# Altium footprint library TEP_243-Altium_Library.PcbLib: 103 footprints (part 2 of 7)
Each footprint in its own frame and in the unit in brackets; x right, y up, seen from the top. Pads: shape width x height; smd on the part's side, far side on the other; paste and mask are expansions set on the pad; w line width, h text height; cw(c..) or ccw(c..) is an arc to the next point about the centre after c.
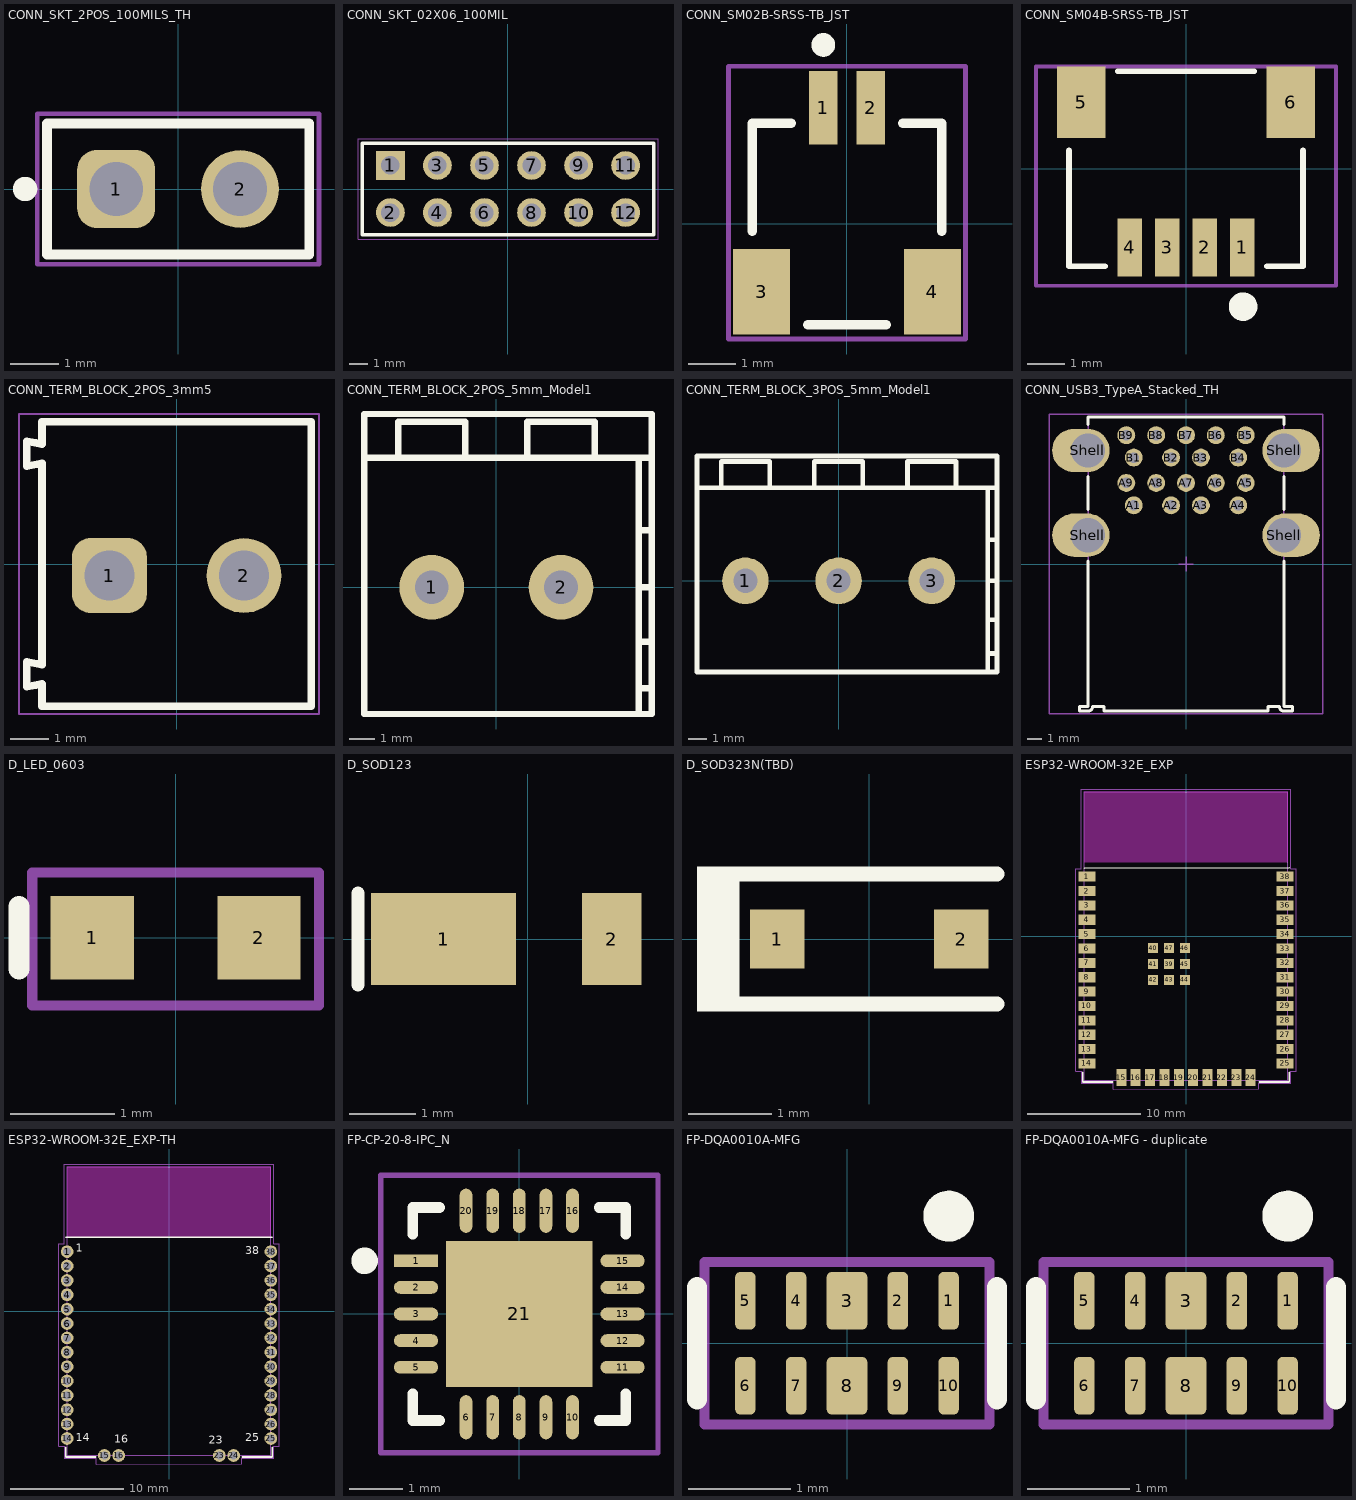
[diagram p1: the footprints below, top view; thin cyan lines are the x and y axes]

## CONN_SKT_2POS_100MILS_TH [mm] "Receptacle, pitch 2.54 mm, THT, Vertical, single row, 2p"
height 8.54
pads (2):
  rrect50% 1.6x1.6 hole 1.1: 1(-1.27,0)
  round 1.6 hole 1.1: 2(1.27,0)
Top Overlay:
  circle w0.25: c-3.14,0 r0.125
  lines w0.2: -2.69,-1.345 -2.69,1.345 2.69,1.345 2.69,-1.345 -2.69,-1.345
Top Courtyard:
  lines w0.1: -2.89,-1.545 2.89,-1.545 2.89,1.545 -2.89,1.545 -2.89,-1.545
Top Designator:
  text ".Designator" at -2.272,-0.229 h1
3D body "PPTC021LFBN-RC.STEP": height 8.51, standoff -3.2, extent -2.794,-1.27 2.794,1.27

## CONN_SKT_02X06_100MIL [mm] "SQ Post Socket, 2x6 Pins, Vertical, 2.54mm Pitch, Female"
height 8.51
pads (12):
  rect 1.55x1.55 hole 1: 1(-6.35,1.27)
  round 1.55 hole 1: 2(-6.35,-1.27) 3(-3.81,1.27) 4(-3.81,-1.27) 5(-1.27,1.27) 6(-1.27,-1.27) 7(1.27,1.27) 8(1.27,-1.27) 9(3.81,1.27) 10(3.81,-1.27) 11(6.35,1.27) 12(6.35,-1.27)
Top Overlay:
  lines w0.2: -7.875,-2.475 7.875,-2.475 7.875,2.475 -7.875,2.475 -7.875,-2.475
Top Courtyard:
  lines w0.05: -8.1,-2.7 8.1,-2.7 8.1,2.7 -8.1,2.7 -8.1,-2.7
Top 3D Body:
  lines w0.1: -7.875,-2.475 7.875,-2.475 7.875,2.475 -7.875,2.475 -7.875,-2.475
3D body "SSW-106-01-X-D.step": height 8.51, standoff -2.64, extent -7.874,-2.477 7.874,2.477

## CONN_SM02B-SRSS-TB_JST [mm]
pads (4):
  rect 0.6x1.55 smd paste+0 mask+0: 1(-0.5,2.45) 2(0.5,2.45)
  rect 1.2x1.8 smd paste+0 mask+0: 3(-1.8,-1.425) 4(1.8,-1.425)
Top Overlay:
  circle w0.25: c-0.5,3.775 r0.125
  lines w0.2: -2,-0.15 -2,2.125 -1.175,2.125 ; -0.825,-2.125 0.825,-2.125 ; 1.175,2.125 2,2.125 2,-0.15
Top Courtyard:
  lines w0.1: -2.5,-2.425 2.5,-2.425 2.5,3.325 -2.5,3.325 -2.5,-2.425
Top Designator:
  text ".Designator" at -1.981,-0.212 h1.5
3D body "Conn_JST_SM02B-SRSS-TB_LF_SN_eec.STEP": height 0.25, standoff 0, extent -2.5,-2.425 2.5,3.325

## CONN_SM04B-SRSS-TB_JST [mil]
height 104.33
pads (6):
  rect 26x61 smd paste+0 mask+0: 1(59.06,-82.62) 2(19.68,-82.62) 3(-19.68,-82.62) 4(-59.06,-82.62)
  rect 51x75 smd paste-37.5 mask-37.5: 5(-110.24,69.94) 6(110.24,69.94)
Top Overlay:
  circle w20: c60,-145 r5
  lines w6: -123,19.34 -123,-102.5 -85.16,-102.5 ; -71.64,102.5 71.64,102.5 ; 85.16,-102.5 123,-102.5 123,19.34
Top Courtyard:
  lines w3.94: -157.74,-123.12 -157.74,107.5 157.74,107.5 157.74,-123.12 -157.74,-123.12
Top Designator:
  text ".Designator" at -88.01,-13.35 h59.06
3D body "SM04B-SRSS-TB.STEP": height 128.15, standoff 11.61, extent -118.11,-96.51 118.11,98.35

## CONN_TERM_BLOCK_2POS_3mm5 [mm] "3.50 mm Horizontal Entry Modular, 2p"
height 8.5
pads (2):
  rrect50% 1.95x1.95 hole 1.3: 1(-1.75,-0.3)
  round 1.95 hole 1.3: 2(1.75,-0.3)
Top Overlay:
  lines w0.2: -3.9,-3.195 -3.9,-2.545 -3.5,-2.62 -3.5,2.62 -3.9,2.545 -3.9,3.195 -3.5,3.12 -3.5,3.7 3.5,3.7 3.5,-3.7 -3.5,-3.7 -3.5,-3.12 -3.9,-3.195
Top Courtyard:
  lines w0.05: -4.1,-3.9 -4.1,3.9 3.7,3.9 3.7,-3.9 -4.1,-3.9
Top Assembly:
  lines w0.1: -3.9,-3.195 -3.5,-3.12 -3.5,-3.7 3.5,-3.7 3.5,3.7 -3.5,3.7 -3.5,3.12 -3.9,3.195 -3.9,2.545 -3.5,2.62 -3.5,-2.62 -3.9,-2.545 -3.9,-3.195
Top Designator:
  text ".Designator" at -3.647,-0.357 h1
Top 3D Body:
  lines w0.1: -3.9,-3.195 -3.9,-2.545 -3.5,-2.62 -3.5,2.62 -3.9,2.545 -3.9,3.195 -3.5,3.12 -3.5,3.7 3.5,3.7 3.5,-3.7 -3.5,-3.7 -3.5,-3.12 -3.9,-3.195
3D body "691214110002.stp": height 8.55, standoff -3.65, extent -3.95,-3.7 3.5,3.7

## CONN_TERM_BLOCK_2POS_5mm_Model1 [mm] "Terminal Block 2 positions Throught hole"
height 15
pads (2):
  round 2.5 hole 1.3: 1(-2.5,0) 2(2.5,0)
Top Overlay:
  lines w0.25: -5.1,5 5.9,5 ; -3.8,5.1 -3.8,6.4 -1.2,6.4 -1.2,5.1 ; 1.2,5.1 1.2,6.4 3.8,6.4 3.8,5.1 ; 5.5,-4.9 5.5,5 ; 5.5,-3.9 6,-3.9 ; 5.5,-2.1 6,-2.1 ; 5.5,0 6,0 ; 5.5,2.2 6,2.2 ; -5.1,-4.9 6,-4.9 6,6.7 -5.1,6.7 -5.1,-4.9
Top Designator:
  text ".Designator" at -2.032,1.523 h1
3D body "pxc_1890963_02_MKDSN-2-5-2_3D.stp": height 15.1, standoff -3.4, extent -4.985,-4.7 5.585,4.8

## CONN_TERM_BLOCK_3POS_5mm_Model1 [mm] "Terminal Block 3 positions Throught hole"
height 15
pads (3):
  round 2.5 hole 1.3: 1(-5,0) 2(0,0) 3(5,0)
Top Overlay:
  lines w0.25: -7.6,5 8.5,5 ; -6.3,5.1 -6.3,6.4 -3.7,6.4 -3.7,5.1 ; -1.3,5.1 -1.3,6.4 1.3,6.4 1.3,5.1 ; 3.7,5.1 3.7,6.4 6.3,6.4 6.3,5.1 ; 8,-4.9 8,5 ; 8,-3.9 8.5,-3.9 ; 8,-2.1 8.5,-2.1 ; 8,0 8.5,0 ; 8,2.2 8.5,2.2 ; -7.6,-4.9 -7.6,6.7 8.5,6.7 8.5,-4.9 -7.6,-4.9
Top Designator:
  text ".Designator" at -1.905,1.523 h1
3D body "pxc_1890976_02_MKDSN-2-5-3_3D.stp": height 15.1, standoff -3.4, extent -7.485,-4.8 8.085,4.7

## CONN_USB3_TypeA_Stacked_TH [mm] "USB 3.0 Type A Stacked 692141030100"
height 15.42
pads (22):
  round 1.2 hole 0.7: A1(-3.5,3.93) A2(-1,3.93) A3(1,3.93) A4(3.5,3.93) A5(4,5.43) A6(2,5.43) A7(0,5.43) A8(-2,5.43) A9(-4,5.43) B1(-3.5,7.13) B2(-1,7.13) B3(1,7.13) B4(3.5,7.13) B5(4,8.63) B6(2,8.63) B7(0,8.63) B8(-2,8.63) B9(-4,8.63)
  oval 3.85x2.9 hole 2.3 copper offset -0.475,0: Shell(-6.57,1.93) Shell(-6.57,7.61)
  oval 3.85x2.9 hole 2.3 copper offset 0.475,0: Shell(6.57,1.93) Shell(6.57,7.61)
Top Overlay:
  lines w0.2: -6.55,0.2 -6.55,-9.55 -7.15,-9.55 -7.15,-9.85 -6.56,-9.85 ccw(c-6.55,-9.55) -6.25,-9.55 -5.5,-9.55 -5.5,-9.85 5.5,-9.85 5.5,-9.55 6.25,-9.55 ccw(c6.55,-9.55) 6.56,-9.85 7.15,-9.85 7.15,-9.55 6.55,-9.55 6.55,0.2 ; -6.55,3.66 -6.55,5.85 ; -6.55,9.35 -6.55,9.85 6.55,9.85 6.55,9.35 ; 6.55,3.66 6.55,5.85
Top Courtyard:
  lines w0.1: -0.5,0 0.5,0 ; 0,-0.5 0,0.5 ; -9.17,-10.05 -9.17,10.05 9.17,10.05 9.17,-10.05 -9.17,-10.05
Top Designator:
  text ".Designator" at -3.378,-0.339 h1.5
Top 3D Body:
  lines w0.1: -7.15,-9.85 -7.15,-9.55 -6.55,-9.55 -6.55,9.85 6.55,9.85 6.55,-9.55 7.15,-9.55 7.15,-9.85 6.56,-9.85 cw(c6.55,-9.55) 6.25,-9.55 5.5,-9.55 5.5,-9.85 -5.5,-9.85 -5.5,-9.55 -6.25,-9.55 cw(c-6.55,-9.55) -6.56,-9.85 -7.15,-9.85
3D body "692141030100.stp": height 16.16, standoff -3.45, extent -7.794,-9.85 7.792,9.85

## D_LED_0603 [mm] "Chip LED, 2-Leads, Body 1.6x0.8mm, IPC Medium Density"
height 0.68
pads (2):
  rect 0.8x0.8 smd: 1(-0.8,0) 2(0.8,0)
Top Overlay:
  lines w0.2: -1.5,-0.3 -1.5,0.3
Top Courtyard:
  lines w0.1: -1.375,-0.65 1.375,-0.65 1.375,0.625 -1.375,0.625 -1.375,-0.65
Top Designator:
  text ".Designator" at -2.489,-0.212 h1.5
3D body "WL-SMCW_0603_LED.stp": height 0.7, standoff 0, extent -0.8,-0.4 0.8,0.4

## D_SOD123 [mm] "diode"
height 1
pads (2):
  rect 2.2x1.4 smd: 1(-1.275,0)
  rect 0.9x1.4 smd: 2(1.275,0)
Top Overlay:
  lines w0.2: -2.575,-0.7 -2.575,0.7
Top Designator:
  text ".Designator" at -1.109,-0.226 h1
3D body "User Library-POWERDI-123.STEP": height 1, standoff 0, extent -2.25,-0.964 1.65,0.966

## D_SOD323N(TBD) [mm]
height 1.2
pads (2):
  rect 0.65x0.7 smd paste-0.05: 1(-1.1,0) 2(1.1,0)
Top Overlay:
  rectangle: -2.057,-0.864 -1.549,0.864
  lines w0.178: -1.803,-0.775 0.1,-0.775 1.525,-0.775 ; -1.803,0.775 0.1,0.775 1.525,0.775
Top Designator:
  text ".Designator" at -1.109,-0.226 h1
3D body "SOD-323F.stp": height 0.79, standoff -0.08, extent -1.35,-0.675 1.35,0.675

## ESP32­WROOM­32E_EXP [mil]
height 196.85
pads (47):
  rect 59x35 smd paste+0 mask+0: 1(-344.5,207.1) 2(-344.5,157.1) 3(-344.5,107.1) 4(-344.5,57.1) 5(-344.5,7.1) 6(-344.5,-42.9) 7(-344.5,-92.9) 8(-344.5,-142.9) 9(-344.5,-192.9) 10(-344.5,-242.9) 11(-344.5,-292.9) 12(-344.5,-342.9) 13(-344.5,-392.9) 14(-344.5,-442.9) 25(344.5,-442.9) 26(344.5,-392.9) 27(344.5,-342.9) 28(344.5,-292.9) 29(344.5,-242.9) 30(344.5,-192.9) 31(344.5,-142.9) 32(344.5,-92.9) 33(344.5,-42.9) 34(344.5,7.1) 35(344.5,57.1) 36(344.5,107.1) 37(344.5,157.1) 38(344.5,207.1)
  rect 35x59 smd paste+0 mask+0: 15(-225,-492.15) 16(-175,-492.15) 17(-125,-492.15) 18(-75,-492.15) 19(-25,-492.15) 20(25,-492.15) 21(75,-492.15) 22(125,-492.15) 23(175,-492.15) 24(225,-492.15)
  rect 35x35 smd paste+0 mask+0: 39(-59.1,-96.9) 40(-114.2,-41.8) 41(-114.2,-96.9) 42(-114.2,-152) 43(-59.1,-152) 44(-4,-152) 45(-4,-96.9) 46(-4,-41.8) 47(-59.1,-41.8)
Top Overlay:
  lines w6: -359.5,-473.5 -359.5,-507 -255.6,-507 ; -354.33,236.22 359.5,237.7 ; 255.6,-507 359.5,-507 359.5,-473.5
Keep-Out Layer:
  region: 354.5,258 354.5,502 -354.5,502 -354.5,258
Top Courtyard:
  lines w3.94: -384,-470.4 -384,234.6 -364.5,234.6 -364.5,512 364.5,512 364.5,234.6 384,234.6 384,-470.4 364.5,-470.4 364.5,-512 252.5,-512 252.5,-531.65 -252.5,-531.65 -252.5,-512 -364.5,-512 -364.5,-470.4 -384,-470.4
Top Designator:
  text ".Designator" at -68.9,-2.45 h39.37
Top 3D Body:
  lines w1: -354.5,-502 -354.5,502 354.5,502 354.5,-502 -354.5,-502
3D body "User Library-ESP32-WROOM-32E-1.STEP": height 124.02, standoff -0.71, extent -355.04,-502.68 355.04,501.97

## ESP32­WROOM­32E_EXP-TH [mm]
height 3
pads (32):
  round 1.12 hole 0.7 paste-2539.97 mask+0: 1(-9,5.26) 2(-9,3.99) 3(-9,2.72) 4(-9,1.45) 5(-9,0.18) 6(-9,-1.09) 7(-9,-2.36) 8(-9,-3.63) 9(-9,-4.9) 10(-9,-6.17) 11(-9,-7.44) 12(-9,-8.71) 13(-9,-9.98) 14(-9,-11.25) 15(-5.715,-12.751) 16(-4.445,-12.751) 23(4.445,-12.751) 24(5.715,-12.751) 25(9,-11.25) 26(9,-9.98) 27(9,-8.71) 28(9,-7.44) 29(9,-6.17) 30(9,-4.9) 31(9,-3.63) 32(9,-2.36) 33(9,-1.09) 34(9,0.18) 35(9,1.45) 36(9,2.72) 37(9,3.99) 38(9,5.26)
Top Overlay:
  lines w0.152: -9.131,-12.027 -9.131,-12.878 -6.492,-12.878 ; -9.131,6.528 9.131,6.528 ; 6.492,-12.878 9.131,-12.878 9.131,-12.027
  text "16" at -4.85,-11.888 h1.2
  text "38" at 6.75,4.763 h1.2
  text "25" at 6.749,-11.737 h1.2
  text "23" at 3.499,-11.987 h1.2
  text "14" at -8.25,-11.75 h1.2
  text "1" at -8.25,5 h1.2
Keep-Out Layer:
  region: 9.004,6.553 9.004,12.751 -9.004,12.751 -9.004,6.553
Top Courtyard:
  lines w0.1: -9.754,-11.948 -9.754,5.959 -9.258,5.959 -9.258,13.005 9.258,13.005 9.258,5.959 9.754,5.959 9.754,-11.948 9.258,-11.948 9.258,-13.005 6.413,-13.005 6.413,-13.504 -6.414,-13.504 -6.414,-13.005 -9.258,-13.005 -9.258,-11.948 -9.754,-11.948
Top Designator:
  text ".Designator" at -2.25,-0.312 h1
Top 3D Body:
  lines w0.025: -9.004,-12.751 -9.004,12.751 9.004,12.751 9.004,-12.751 -9.004,-12.751
3D body "GRPB141VWVN-RC.STEP": height 9.21, standoff 2.91, extent -10.067,-11.885 -7.934,5.895
3D body "GRPB141VWVN-RC.STEP": height 9.21, standoff 2.91, extent 7.934,-11.885 10.067,5.895
3D body "Conn_Sullins_GRPB021VWVN-RC_eec.STEP": height -2.9, standoff -9.6, extent 3.815,-13.822 6.355,-11.681
3D body "Conn_Sullins_GRPB021VWVN-RC_eec.STEP": height -2.9, standoff -9.6, extent -6.345,-13.822 -3.805,-11.681
3D body "User Library-ESP32-WROOM-32E-1.STEP": height 10.15, standoff 6.98, extent -9.018,-12.75 9.018,12.768

## FP-CP-20-8-IPC_N [mm]
pads (21):
  rect 0.831x0.239 smd paste+0 mask+0: 1(-1.941,1)
  rrect100% 0.831x0.239 smd paste+0 mask+0: 2(-1.941,0.5) 3(-1.941,0) 4(-1.941,-0.5) 5(-1.941,-1) 11(1.941,-1) 12(1.941,-0.5) 13(1.941,0) 14(1.941,0.5) 15(1.941,1)
  rrect100% 0.239x0.831 smd paste+0 mask+0: 6(-1,-1.941) 7(-0.5,-1.941) 8(0,-1.941) 9(0.5,-1.941) 10(1,-1.941) 16(1,1.941) 17(0.5,1.941) 18(0,1.941) 19(-0.5,1.941) 20(-1,1.941)
  rect 2.75x2.75 smd paste-2 mask+0: 21(0,0)
Top Overlay:
  circle w0.25: c-2.906,1 r0.125
  lines w0.2: -2,-1.5 -2,-2 -1.5,-2 ; -2,1.5 -2,2 -1.5,2 ; 1.5,-2 2,-2 2,-1.5 ; 1.5,2 2,2 2,1.5
Top Paste:
  rectangle: -1.143,0.127 -0.127,1.143
  region: -0.127,-1.143 -0.127,-0.127 -1.143,-0.127 -1.143,-1.143
  region: 0.127,1.143 0.127,0.127 1.143,0.127 1.143,1.143
  region: 1.143,-0.127 0.127,-0.127 0.127,-1.143 1.143,-1.143
Top Courtyard:
  lines w0.1: -2.606,-2.606 2.606,-2.606 2.606,2.606 -2.606,2.606 -2.606,-2.606
Top Designator:
  text ".Designator" at -1.346,-0.339 h1.5
3D body "IC_Analog_Devices_AD8232ACPZ-R7_eec.STEP": height 0.25, standoff 0, extent -2.606,-2.606 2.606,2.606

## FP-DQA0010A-MFG [mm]
height 2.65
pads (10):
  rrect50% 0.2x0.565 smd paste+0 mask+0: 1(1,0.417) 2(0.5,0.417) 4(-0.5,0.417) 5(-1,0.417) 6(-1,-0.417) 7(-0.5,-0.417) 9(0.5,-0.417) 10(1,-0.417)
  rrect25% 0.4x0.565 smd paste-0.025 mask+0: 3(0,0.417) 8(0,-0.417)
Top Overlay:
  circle w0.25: c1,1.25 r0.125
  lines w0.2: -1.475,-0.55 -1.475,0.55 ; 1.475,-0.55 1.475,0.55
Top Courtyard:
  lines w0.1: -1.4,-0.8 -1.4,0.8 1.4,0.8 1.4,-0.8 -1.4,-0.8
Top Designator:
  text ".Designator" at -1.109,-0.226 h1
3D body "Diode_Texas_Instruments_ESD204DQAR_eec.STEP": height 0.25, standoff 0, extent -1.4,-0.8 1.4,0.8

## FP-DQA0010A-MFG - duplicate [mm]
height 2.65
pads (10):
  rrect50% 0.2x0.565 smd paste+0 mask+0: 1(1,0.417) 2(0.5,0.417) 4(-0.5,0.417) 5(-1,0.417) 6(-1,-0.417) 7(-0.5,-0.417) 9(0.5,-0.417) 10(1,-0.417)
  rrect25% 0.4x0.565 smd paste-0.025 mask+0: 3(0,0.417) 8(0,-0.417)
Top Overlay:
  circle w0.25: c1,1.25 r0.125
  lines w0.2: -1.475,-0.55 -1.475,0.55 ; 1.475,-0.55 1.475,0.55
Top Courtyard:
  lines w0.1: -1.4,-0.8 1.4,-0.8 1.4,0.8 -1.4,0.8 -1.4,-0.8
Top Designator:
  text ".Designator" at -1.109,-0.226 h1
3D body "Diode_Texas_Instruments_ESD204DQAR_eec.STEP": height 0.25, standoff 0, extent -1.4,-0.8 1.4,0.8